# EAGLE library part ATTINY841 (library Souers)
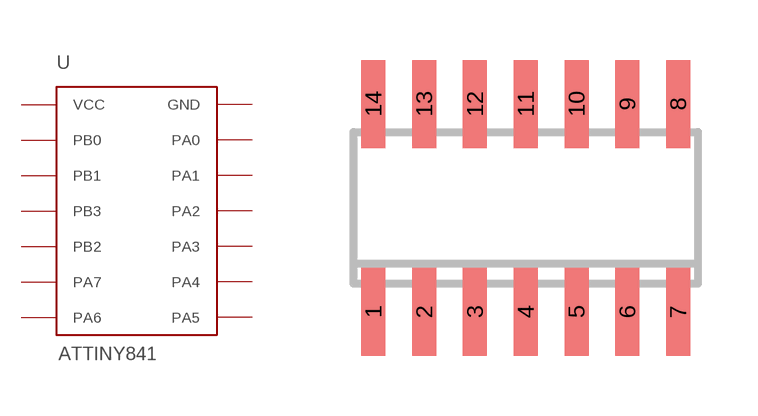
[diagram p3: symbol with the pads of SO14; footprint SO14]

Designator prefix -

## ATTINY841  [SO14]
1  VCC
2  PB0
3  PB1
4  PB3
5  PB2
6  PA7
7  PA6
8  PA5
9  PA4
10  PA3
11  PA2
12  PA1
13  PA0
14  GND

## Footprint SO14 (pad centres in mm)
Small Outline Package 14
smd 0.6 x 2.2: 1 -3.81,-2.6; 2 -2.54,-2.6; 3 -1.27,-2.6; 4 0,-2.6; 5 1.27,-2.6; 6 2.54,-2.6; 7 3.81,-2.6; 8 3.81,2.6; 9 2.54,2.6; 10 1.27,2.6; 11 0,2.6; 12 -1.27,2.6; 13 -2.54,2.6; 14 -3.81,2.6